# EAGLE library part BQ25616 (library bschulz)
BQ25616 - Buck Battery Charger Standalone 1-Cell 3.0-A Buck Battery Charger with Power Path and 1.2-A Boost Operation Characteristics: Vin: 4V ~ 13.5V Vbat, Max: 4.35V ICharge, max: 3A IQ: 9.5μA Operating Temperature: -40°C to 85°C Digikey: 296-BQ25616RTWRCT-ND <https://www.digikey.com/en/products/detail/BQ25616RTWR/296-BQ25616RTWRCT-ND/11615905?itemSeq=348322194>
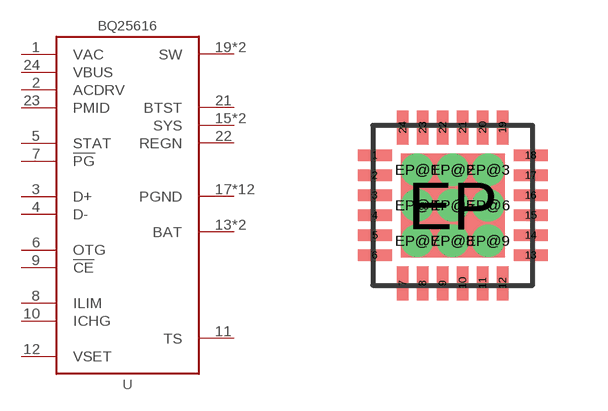
[diagram p131: symbol with the pads of QFN24_POWER; footprint QFN24_POWER]

Designator prefix U

## BQ25616 (DIGIKEY: 296-BQ25616RTWRCT-ND; MF: TI; MPN: BQ25616RTWR)  [QFN24_POWER]
1  VAC  pwr
2  ACDRV  out
3  D+
4  D-
5  STAT  out
6  OTG  in
7  !PG  out
8  ILIM  in
9  !CE  in
10  ICHG  in
11  TS  in
12  VSET  in
13  BAT  pwr
14  BAT  pwr
15  SYS  pwr
16  SYS  pwr
17  PGND  pwr
18  PGND  pwr
19  SW  pwr
20  SW  pwr
21  BTST  pwr
22  REGN
23  PMID  pwr
24  VBUS
EP  PGND  pwr
EP@1  PGND  pwr
EP@2  PGND  pwr
EP@3  PGND  pwr
EP@4  PGND  pwr
EP@5  PGND  pwr
EP@6  PGND  pwr
EP@7  PGND  pwr
EP@8  PGND  pwr
EP@9  PGND  pwr

## Footprint QFN24_POWER (pad centres in mm)
24 pin QFN package, with vias 4x4 mm size Reference <https://www.ti.com/lit/ds/symlink/bq25616.pdf?HQS=TI-null-null-digikeymode-df-pf-null-wwe&ts=1608221255424>
smd 0.85 x 0.28: 1 -1.95,1.25; 2 -1.95,0.75; 3 -1.95,0.25; 4 -1.95,-0.25; 5 -1.95,-0.75; 6 -1.95,-1.25; 13 1.95,-1.25; 14 1.95,-0.75; 15 1.95,-0.25; 16 1.95,0.25; 17 1.95,0.75; 18 1.95,1.25
smd 0.28 x 0.85: 7 -1.25,-1.95; 8 -0.75,-1.95; 9 -0.25,-1.95; 10 0.25,-1.95; 11 0.75,-1.95; 12 1.25,-1.95; 19 1.25,1.95; 20 0.75,1.95; 21 0.25,1.95; 22 -0.25,1.95; 23 -0.75,1.95; 24 -1.25,1.95
smd 2.6 x 2.6: EP 0,0
drill 0.3: EP@1 -0.889,0.889; EP@2 0,0.889; EP@3 0.889,0.889; EP@4 -0.889,0; EP@5 0,0; EP@6 0.889,0; EP@7 -0.889,-0.889; EP@8 0,-0.889; EP@9 0.889,-0.889